# Altium schematic symbol library TPS259530DSGR.SchLib: 1 symbol
Pins are listed as number, name and electrical type; pins without a type are passive.

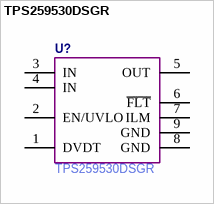
[diagram p0: symbol TPS259530DSGR]

## TPS259530DSGR
designator U?
Manufacture Part Number: TPS259530DSGR
pins: 1 DVDT, 2 EN/UVLO, 3 IN, 4 IN, 5 OUT, 6 ~{FLT}, 7 ILM, 8 GND, 9 GND